# EAGLE library part MC10H136PG (library ON Semiconductor_By_element14_Batch_1)
Universal Hexadecimal Counter
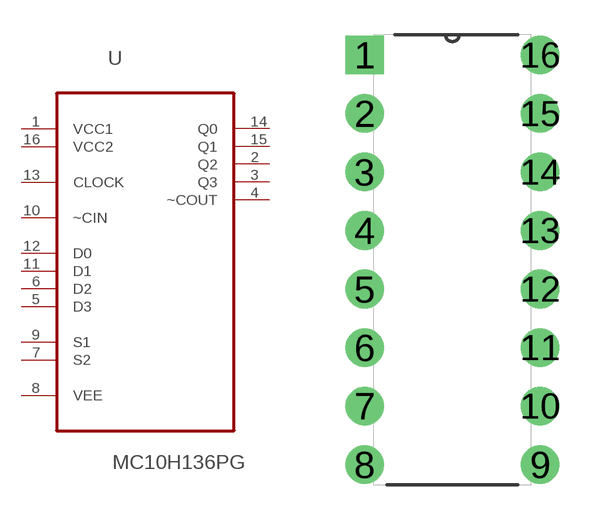
[diagram p185: symbol with the pads of DIP254P762X444-16; footprint DIP254P762X444-16]

Designator prefix U

## MC10H136PG (MPN: MC10H136PG; OC_FARNELL: -; OC_NEWARK: 45J0882; P1I: o; PACKAGE: PDIP-16; SUPPLIER: ON SEMICONDUCTOR)  [DIP254P762X444-16]
1  VCC1  pwr
2  Q2  out
3  Q3  out
4  ~COUT  out
5  D3  in
6  D2  in
7  S2  in
8  VEE  pas
9  S1  in
10  ~CIN  in
11  D1  in
12  D0  in
13  CLOCK  in
14  Q0  out
15  Q1  out
16  VCC2  pwr

## Footprint DIP254P762X444-16 (pad centres in mm)
drill 1.118 square: 1 -7.62,17.78
drill 1.118: 2 -7.62,15.24; 3 -7.62,12.7; 4 -7.62,10.16; 5 -7.62,7.62; 6 -7.62,5.08; 7 -7.62,2.54; 8 -7.62,0; 9 0,0; 10 0,2.54; 11 0,5.08; 12 0,7.62; 13 0,10.16; 14 0,12.7; 15 0,15.24; 16 0,17.78